# Altium footprint library tssop.PcbLib: 1 footprints
Each footprint in its own frame and in the unit in brackets; x right, y up, seen from the top. Pads: shape width x height; smd on the part's side, far side on the other; paste and mask are expansions set on the pad; w line width, h text height; cw(c..) or ccw(c..) is an arc to the next point about the centre after c.
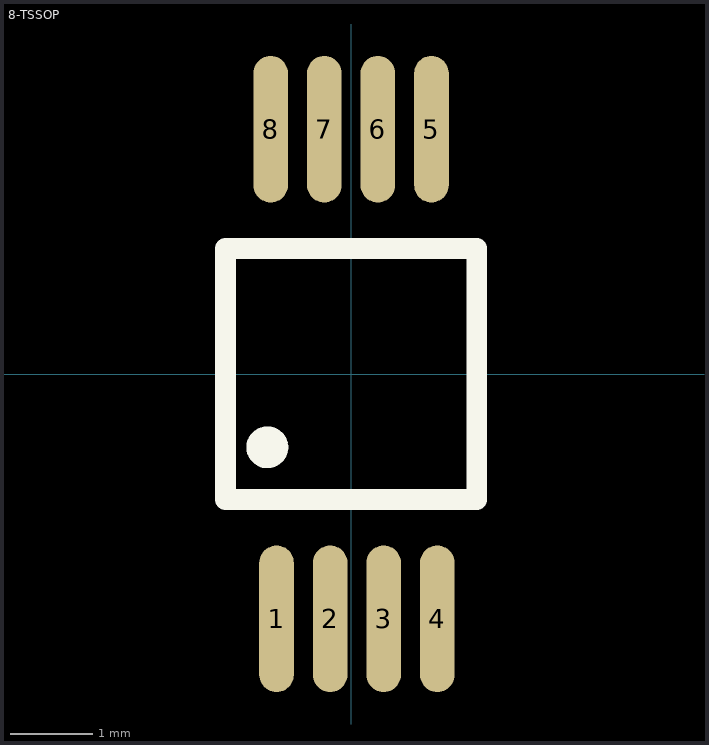
[diagram p0: the footprint, top view; thin cyan lines are the x and y axes]

## 8-TSSOP [mm]
pads (8):
  oval 0.42x1.78 smd mask+0.064: 1(-0.904,-2.97) 2(-0.254,-2.97) 3(0.396,-2.97) 4(1.046,-2.97) 5(0.975,2.97) 6(0.325,2.97) 7(-0.325,2.97) 8(-0.975,2.97)
Top Overlay:
  circle w0.254: c-1.016,-0.889 r0.127
  lines w0.254: -1.525,-1.525 1.525,-1.525 1.525,1.525 -1.525,1.525 -1.525,-1.525